# Altium schematic symbol library MBRM140T1G.Schlib: 1 symbol
Pins are listed as number, name and electrical type; pins without a type are passive.

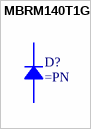
[diagram p0: symbol MBRM140T1G]

## MBRM140T1G
designator D?
Schottky Diode
pins: 1, 2